# Altium schematic symbol library mfmc_components.SchLib: 184 symbols (part 2 of 2)
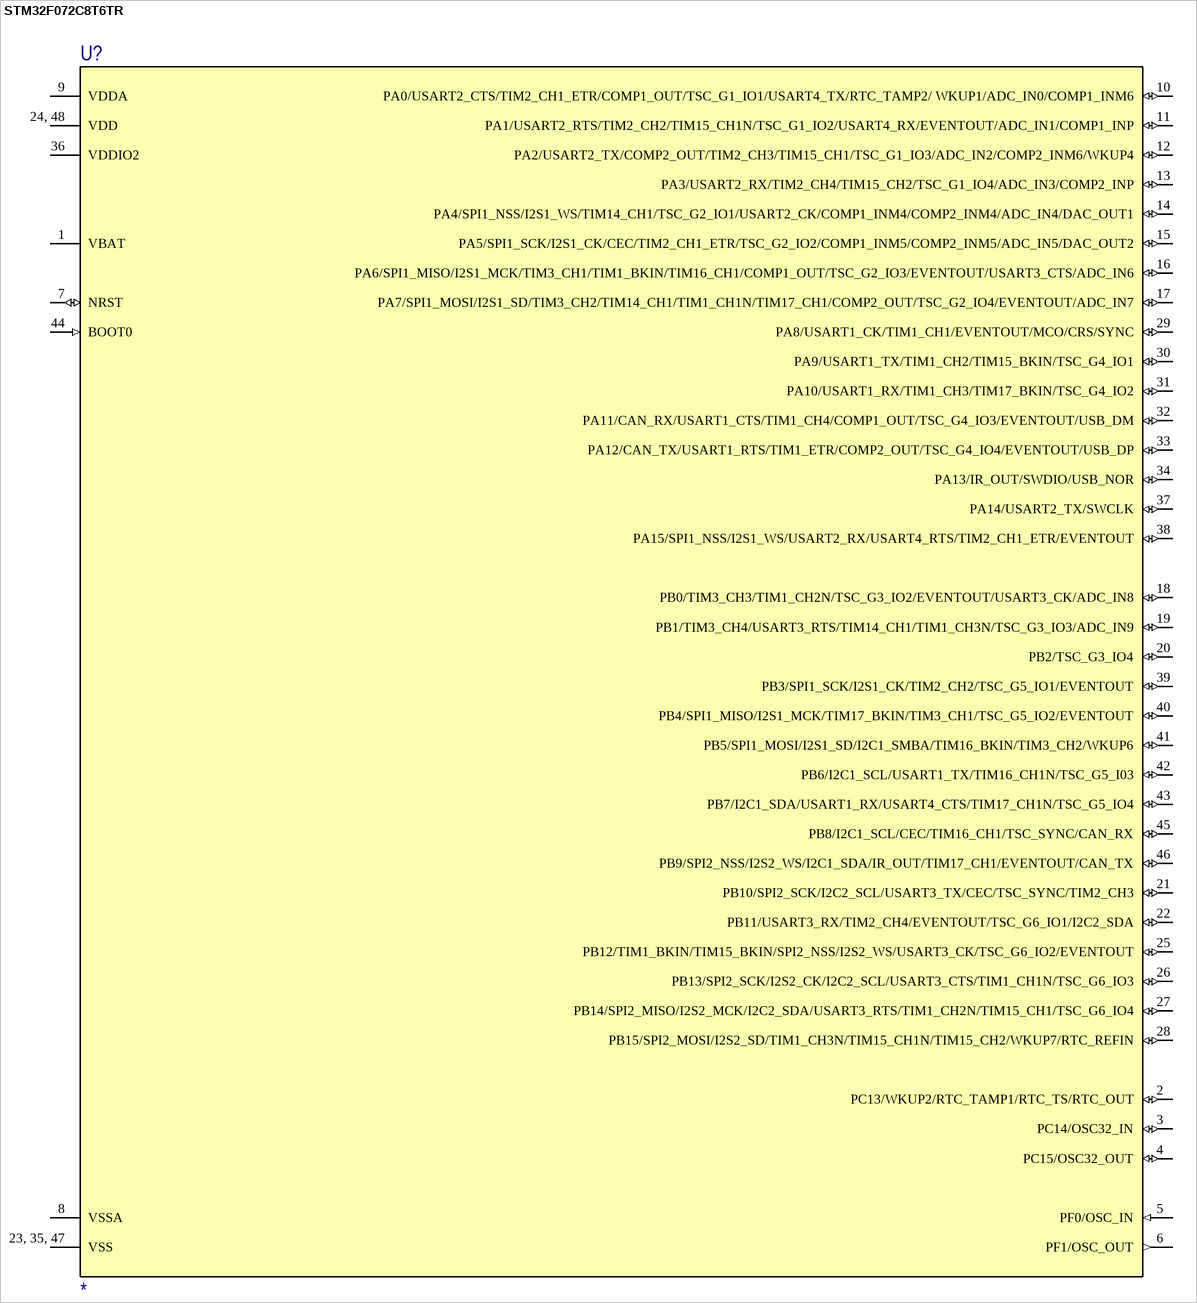
[diagram p11: symbol STM32F072C8T6TR]

## STM32F072C8T6TR
designator U?
Arm®-based 32-bit MCU, up to 128 KB Flash, crystal-less USB / FS 2.0, CAN, 12 timers, ADC, DAC & comm. interfaces, 2.0 - 3.6 V
footprint 48-LQFP (TSQFP, 48-Leads, Body 7,00x7,00mm, Pitch 0,50mm, IPC Medium Density); pin to pad 23, 35, 47>23+35+47 24, 48>24+48
pins: 1 VBAT (power), 2 PC13/WKUP2/RTC_TAMP1/RTC_TS/RTC_OUT (io), 3 PC14/OSC32_IN (io), 4 PC15/OSC32_OUT (io), 5 PF0/OSC_IN (in), 6 PF1/OSC_OUT (out), 7 NRST (io), 8 VSSA (power), 9 VDDA (power), 10 PA0/USART2_CTS/TIM2_CH1_ETR/COMP1_OUT/TSC_G1_IO1/USART4_TX/RTC_TAMP2/ WKUP1/ADC_IN0/COMP1_INM6 (io), 11 PA1/USART2_RTS/TIM2_CH2/TIM15_CH1N/TSC_G1_IO2/USART4_RX/EVENTOUT/ADC_IN1/COMP1_INP (io), 12 PA2/USART2_TX/COMP2_OUT/TIM2_CH3/TIM15_CH1/TSC_G1_IO3/ADC_IN2/COMP2_INM6/WKUP4 (io), 13 PA3/USART2_RX/TIM2_CH4/TIM15_CH2/TSC_G1_IO4/ADC_IN3/COMP2_INP (io), 14 PA4/SPI1_NSS/I2S1_WS/TIM14_CH1/TSC_G2_IO1/USART2_CK/COMP1_INM4/COMP2_INM4/ADC_IN4/DAC_OUT1 (io), 15 PA5/SPI1_SCK/I2S1_CK/CEC/TIM2_CH1_ETR/TSC_G2_IO2/COMP1_INM5/COMP2_INM5/ADC_IN5/DAC_OUT2 (io), 16 PA6/SPI1_MISO/I2S1_MCK/TIM3_CH1/TIM1_BKIN/TIM16_CH1/COMP1_OUT/TSC_G2_IO3/EVENTOUT/USART3_CTS/ADC_IN6 (io), 17 PA7/SPI1_MOSI/I2S1_SD/TIM3_CH2/TIM14_CH1/TIM1_CH1N/TIM17_CH1/COMP2_OUT/TSC_G2_IO4/EVENTOUT/ADC_IN7 (io), 18 PB0/TIM3_CH3/TIM1_CH2N/TSC_G3_IO2/EVENTOUT/USART3_CK/ADC_IN8 (io), 19 PB1/TIM3_CH4/USART3_RTS/TIM14_CH1/TIM1_CH3N/TSC_G3_IO3/ADC_IN9 (io), 20 PB2/TSC_G3_IO4 (io), 21 PB10/SPI2_SCK/I2C2_SCL/USART3_TX/CEC/TSC_SYNC/TIM2_CH3 (io), 22 PB11/USART3_RX/TIM2_CH4/EVENTOUT/TSC_G6_IO1/I2C2_SDA (io), 23, 35, 47 VSS (power), 24, 48 VDD (power), 25 PB12/TIM1_BKIN/TIM15_BKIN/SPI2_NSS/I2S2_WS/USART3_CK/TSC_G6_IO2/EVENTOUT (io), 26 PB13/SPI2_SCK/I2S2_CK/I2C2_SCL/USART3_CTS/TIM1_CH1N/TSC_G6_IO3 (io), 27 PB14/SPI2_MISO/I2S2_MCK/I2C2_SDA/USART3_RTS/TIM1_CH2N/TIM15_CH1/TSC_G6_IO4 (io), 28 PB15/SPI2_MOSI/I2S2_SD/TIM1_CH3N/TIM15_CH1N/TIM15_CH2/WKUP7/RTC_REFIN (io), 29 PA8/USART1_CK/TIM1_CH1/EVENTOUT/MCO/CRS/SYNC (io), 30 PA9/USART1_TX/TIM1_CH2/TIM15_BKIN/TSC_G4_IO1 (io), 31 PA10/USART1_RX/TIM1_CH3/TIM17_BKIN/TSC_G4_IO2 (io), 32 PA11/CAN_RX/USART1_CTS/TIM1_CH4/COMP1_OUT/TSC_G4_IO3/EVENTOUT/USB_DM (io), 33 PA12/CAN_TX/USART1_RTS/TIM1_ETR/COMP2_OUT/TSC_G4_IO4/EVENTOUT/USB_DP (io), 34 PA13/IR_OUT/SWDIO/USB_NOR (io), 36 VDDIO2 (power), 37 PA14/USART2_TX/SWCLK (io), 38 PA15/SPI1_NSS/I2S1_WS/USART2_RX/USART4_RTS/TIM2_CH1_ETR/EVENTOUT (io), 39 PB3/SPI1_SCK/I2S1_CK/TIM2_CH2/TSC_G5_IO1/EVENTOUT (io), 40 PB4/SPI1_MISO/I2S1_MCK/TIM17_BKIN/TIM3_CH1/TSC_G5_IO2/EVENTOUT (io), 41 PB5/SPI1_MOSI/I2S1_SD/I2C1_SMBA/TIM16_BKIN/TIM3_CH2/WKUP6 (io), 42 PB6/I2C1_SCL/USART1_TX/TIM16_CH1N/TSC_G5_I03 (io), 43 PB7/I2C1_SDA/USART1_RX/USART4_CTS/TIM17_CH1N/TSC_G5_IO4 (io), 44 BOOT0 (in), 45 PB8/I2C1_SCL/CEC/TIM16_CH1/TSC_SYNC/CAN_RX (io), 46 PB9/SPI2_NSS/I2S2_WS/I2C1_SDA/IR_OUT/TIM17_CH1/EVENTOUT/CAN_TX (io)

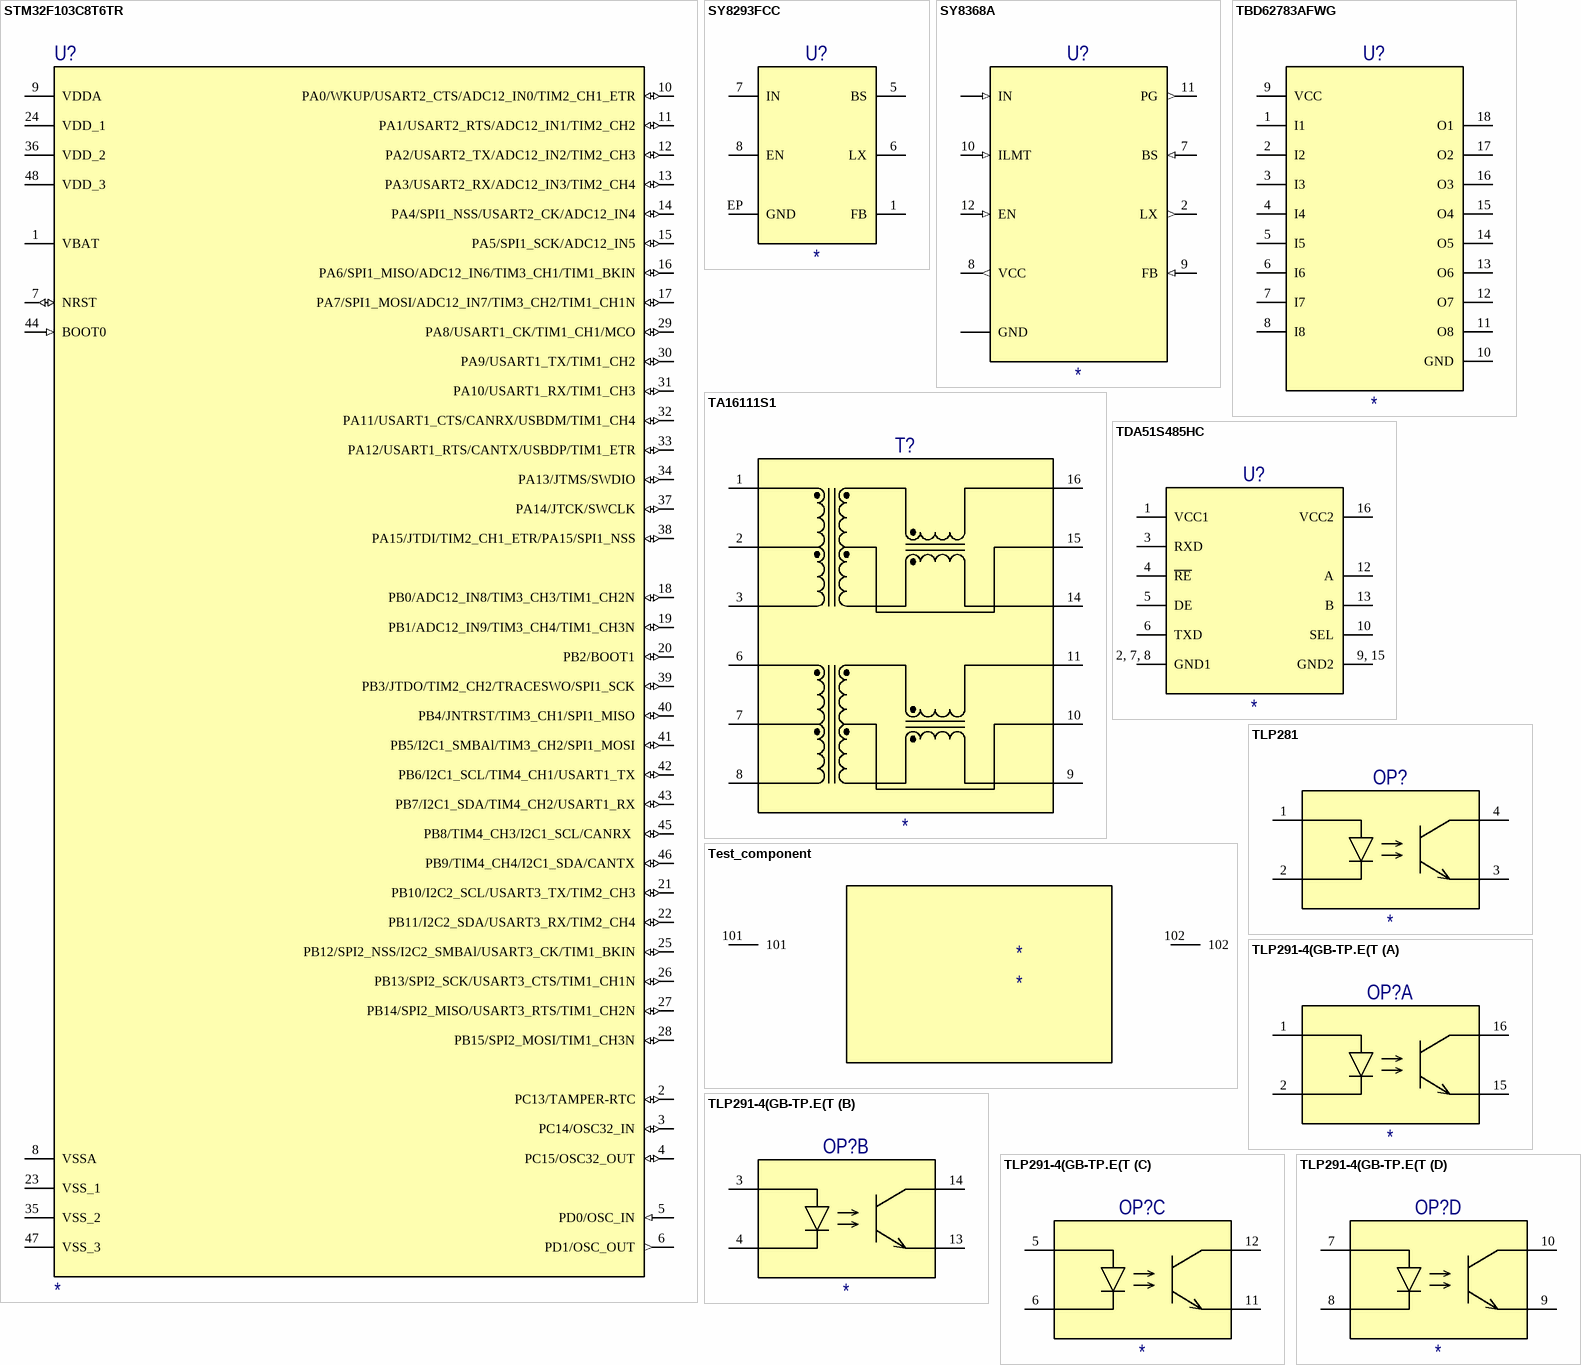
[diagram p9: symbols STM32F103C8T6TR to TLP291-4(GB-TP.E(T]

## STM32F103C8T6TR
designator U?
Medium-density performance line Arm®-based 32-bit MCU with 64 or 128 KB Flash, USB, CAN, 7 timers, 2 ADCs, 9 com. interfaces
footprint 48-LQFP (TSQFP, 48-Leads, Body 7,00x7,00mm, Pitch 0,50mm, IPC Medium Density)
pins: 1 VBAT (power), 2 PC13/TAMPER-RTC (io), 3 PC14/OSC32_IN (io), 4 PC15/OSC32_OUT (io), 5 PD0/OSC_IN (in), 6 PD1/OSC_OUT (out), 7 NRST (io), 8 VSSA (power), 9 VDDA (power), 10 PA0/WKUP/USART2_CTS/ADC12_IN0/TIM2_CH1_ETR (io), 11 PA1/USART2_RTS/ADC12_IN1/TIM2_CH2 (io), 12 PA2/USART2_TX/ADC12_IN2/TIM2_CH3 (io), 13 PA3/USART2_RX/ADC12_IN3/TIM2_CH4 (io), 14 PA4/SPI1_NSS/USART2_CK/ADC12_IN4 (io), 15 PA5/SPI1_SCK/ADC12_IN5 (io), 16 PA6/SPI1_MISO/ADC12_IN6/TIM3_CH1/TIM1_BKIN (io), 17 PA7/SPI1_MOSI/ADC12_IN7/TIM3_CH2/TIM1_CH1N (io), 18 PB0/ADC12_IN8/TIM3_CH3/TIM1_CH2N (io), 19 PB1/ADC12_IN9/TIM3_CH4/TIM1_CH3N (io), 20 PB2/BOOT1 (io), 21 PB10/I2C2_SCL/USART3_TX/TIM2_CH3 (io), 22 PB11/I2C2_SDA/USART3_RX/TIM2_CH4 (io), 23 VSS_1 (power), 24 VDD_1 (power), 25 PB12/SPI2_NSS/I2C2_SMBAl/USART3_CK/TIM1_BKIN (io), 26 PB13/SPI2_SCK/USART3_CTS/TIM1_CH1N (io), 27 PB14/SPI2_MISO/USART3_RTS/TIM1_CH2N (io), 28 PB15/SPI2_MOSI/TIM1_CH3N (io), 29 PA8/USART1_CK/TIM1_CH1/MCO (io), 30 PA9/USART1_TX/TIM1_CH2 (io), 31 PA10/USART1_RX/TIM1_CH3 (io), 32 PA11/USART1_CTS/CANRX/USBDM/TIM1_CH4 (io), 33 PA12/USART1_RTS/CANTX/USBDP/TIM1_ETR (io), 34 PA13/JTMS/SWDIO (io), 35 VSS_2 (power), 36 VDD_2 (power), 37 PA14/JTCK/SWCLK (io), 38 PA15/JTDI/TIM2_CH1_ETR/PA15/SPI1_NSS (io), 39 PB3/JTDO/TIM2_CH2/TRACESWO/SPI1_SCK (io), 40 PB4/JNTRST/TIM3_CH1/SPI1_MISO (io), 41 PB5/I2C1_SMBAl/TIM3_CH2/SPI1_MOSI (io), 42 PB6/I2C1_SCL/TIM4_CH1/USART1_TX (io), 43 PB7/I2C1_SDA/TIM4_CH2/USART1_RX (io), 44 BOOT0 (in), 45 PB8/TIM4_CH3/I2C1_SCL/CANRX  (io), 46 PB9/TIM4_CH4/I2C1_SDA/CANTX (io), 47 VSS_3 (power), 48 VDD_3 (power)

## SY8293FCC
designator U?
High Efficiency, 800kHz, 40V Input, 3A Non-synchronous Step Down Regulator; Manufacturer: SILERGY
footprint 8-SOIC-E-OVERLAY (SOIC, 8-Leads, Exposed Pad, Body 4,91x3,90mm, Pitch 1,27mm, IPC Medium Density)
footprint 8-SOIC-E (SOIC, 8-Leads, Exposed Pad, Body 4,91x3,90mm, Pitch 1,27mm, IPC Medium Density)
pins: 1 FB "Output feedback pin", 5 BS "Boot-strap pin", 6 LX "Inductor pin", 7 IN "Input pin", 8 EN "Enable control", EP GND "Ground pin"

## SY8368A
designator U?
The SY8368A develops a high efficiency synchronousm step-down DC-DC regulator capable of delivering 8A continuous, 16A peak current. The SY8368A operates over a wide input voltage range from 4.0V to 28V and integrates main switch and synchronous switch with very low RDS(ON) to minimize the conduction loss.
footprint QFN3x3-12-B; pin to pad 1>1+3 4>4+5+6
pins: 1 GND (power), 2 LX (out), 4 IN (in), 7 BS (in), 8 VCC (out), 9 FB (in), 10 ILMT (in), 11 PG (out), 12 EN (in)

## TA16111S1
designator T?
Power over ethernet PoE magnetics 10/100Base-Tx VoIP Magnetics Modules
footprint 16-SOP-H5.8 (SOP, 16-Leads, Body 12,70x7,00mm, Pitch 1,27mm, IPC Medium Density)
pins: 1 TDP, 2 TDC, 3 TDN, 6 RDP, 7 RDC, 8 RDN, 9 RXN, 10 RXC, 11 RXP, 14 TXN, 15 TXC, 16 TXP

## TBD62783AFWG
designator U?
DMOS transistor array with 8 circuits; Manufacturer: TOSHIBA CORPORATION
footprint 18-SOIC-E7500-D11600-A2650-H10300-B700-e1270 (SOIC, 18-Leads, Body 11,60x7,50mm, Pitch 1,27mm, IPC Medium Density)
footprint 18-SOIC-E7500-D11600-A2650-H10300-B700-e1270 - OVERLAY (SOIC, 18-Leads, Body 11,60x7,50mm, Pitch 1,27mm, IPC Medium Density)
pins: 1 I1, 2 I2, 3 I3, 4 I4, 5 I5, 6 I6, 7 I7, 8 I8, 9 VCC, 10 GND, 11 O8, 12 O7, 13 O6, 14 O5, 15 O4, 16 O3, 17 O2, 18 O1

## TDA51S485HC
designator U?
Isolated bidirect RS485 UART Convertor; Manufacturer: MORNSUN Guangzhou Science & Technology Co., Ltd.
footprint 16-SOIC-E7500-D10300-A2560-H10300-B400-e1270 (SOIC, 16-Leads, Body 10,30x7,50mm, Pitch 1,27mm, IPC Medium Density); pin to pad 2,7,8>2+7+8 9,15>9+15
footprint 16-SOIC-E7500-D10300-A2560-H10300-B400-e1270 - OVERLAY (SOIC, 16-Leads, Body 10,30x7,50mm, Pitch 1,27mm, IPC Medium Density)
pins: 1 VCC1, 2, 7, 8 GND1, 3 RXD, 4 ~{RE}, 5 DE, 6 TXD, 9, 15 GND2, 10 SEL, 12 A, 13 B, 16 VCC2

## Test_component
designator *
Manufacturer 1: Samsung; Manufacturer Part Number 1: 123; Manufacturer Lifecycle 1: Volume Production; Supplier 1: Didikey
pins: 101, 102

## TLP281
designator OP?
TLP281 and TLP281-4 is a very small and thin coupler, suitable for surface mount assembly in applications such as PCMCIA Fax modem, programmable controllers. TLP281 and TLP281-4 consist of photo transistor, optically coupled to a gallium arsenide infrared emitting diode.; Manufacturer: TOSHIBA ELECTRONIC DEVICES & STORAGE CORPORATION
footprint 4-SOIC (SOIC, 4-Leads, Body 2,60x4,40mm, Pitch 1,27mm, IPC Medium Density)
pins: 1, 2, 3, 4

## TLP291-4(GB-TP.E(T
designator OP?
Phototransistors optically coupled to an infrared LED; Manufacturer: TOSHIBA ELECTRONIC DEVICES & STORAGE CORPORATION
footprint 16-SOIC-E4000-D10000-A1750-H6000-B600-e1270
footprint 16-SOIC-E4000-D10000-A1750-H6000-B600-e1270 - OVERLAY
part A pins: 1, 2, 15, 16
part B pins: 3, 4, 13, 14
part C pins: 5, 6, 11, 12
part D pins: 7, 8, 9, 10

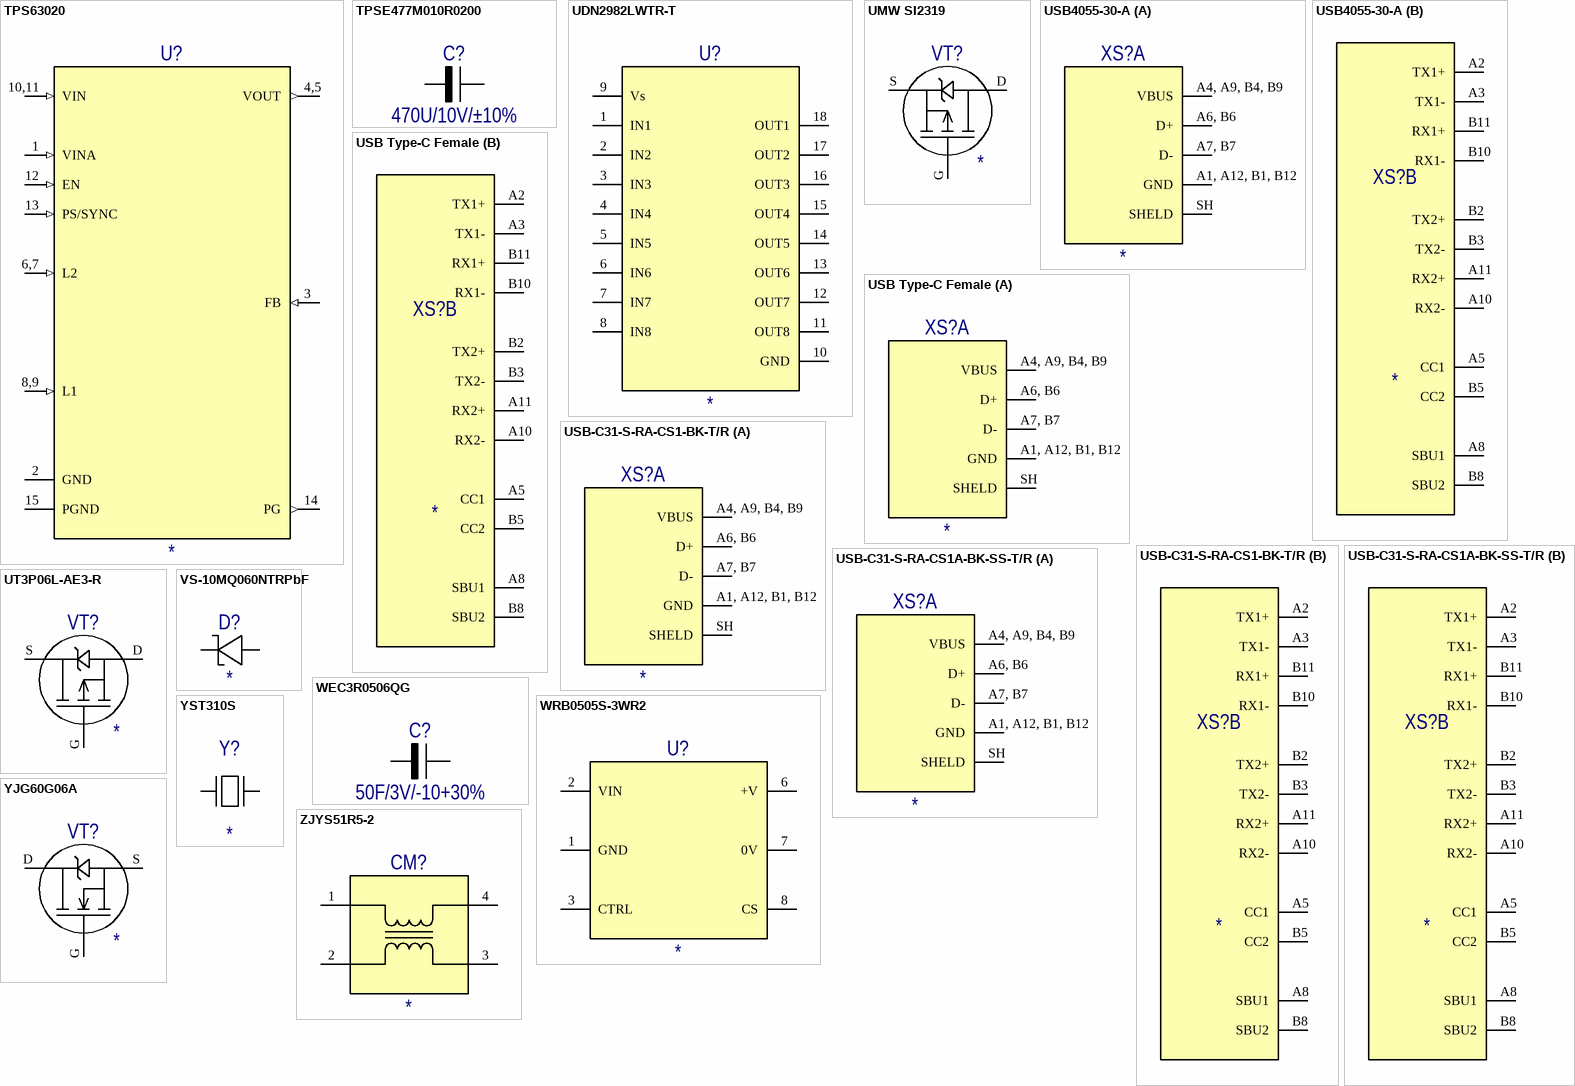
[diagram p10: symbols TPS63020 to ZJYS51R5-2]

## TPS63020
designator U?
The TPS6302x devices provide a power supply solution for products powered by either a two-cell or three-cell alkaline, NiCd or NiMH battery, a one-cell Li-ion or Li-polymer battery, supercapacitors or other supply rails. Output currents up to 3 A are supported. When using batteries, they can be discharged down to below 2 V. The buck-boost converter is based on a fixed frequency, pulse width modulation (PWM) controller using synchronous rectification to obtain maximum efficiency. At low load currents, the converter enters power save mode to maintain high efficiency over a wide load current range. The power save mode can be disabled, forcing the converter to operate at a fixed switching frequency. The maximum average current in the switches is limited to a typical value of 4 A. The output voltage is programmable using an external resistor divider, or is fixed internally on the chip. The converter can be disabled to minimize battery drain. During shutdown, the load is disconnected from the battery.
footprint 14-VSONT (14-Pin VSON with Exposed Thermal Pad); pin to pad 4,5>4+5 6,7>6+7 8,9>8+9 10,11>10+11
pins: 1 VINA (in), 2 GND, 3 FB (in), 4,5 VOUT (out), 6,7 L2 (in), 8,9 L1 (in), 10,11 VIN (in), 12 EN (in), 13 PS/SYNC (in), 14 PG (out), 15 PGND

## TPSE477M010R0200
designator C?  value 470U/10V/±10%  (hidden comment: *)
Low ESR series of robust Mn02 solid electrolyte capacitors, Capacitance: 470uF, Nominal voltage: 10V, Tolerance: ±10%, ESR: 200mΩ; MountingValue: 470uF
footprint TCAP2917(E) (Molded Capacitor, 2-Leads, Body 7,30x4,30mm, IPC Medium Density)
pins: 1, 2

## UDN2982LWTR-T
designator U?
Manufacturer: Allegro MicroSystems, Inc
footprint 18-SOIC-E7500-D11600-A2650-H10300-B700-e1270 (SOIC, 18-Leads, Body 11,60x7,50mm, Pitch 1,27mm, IPC Medium Density)
pins: 1 IN1, 2 IN2, 3 IN3, 4 IN4, 5 IN5, 6 IN6, 7 IN7, 8 IN8, 9 Vs, 10 GND, 11 OUT8, 12 OUT7, 13 OUT6, 14 OUT5, 15 OUT4, 16 OUT3, 17 OUT2, 18 OUT1

## UMW SI2319
designator VT?
P-channel Power MOSFET; Manufacturer: Guangdong Youtai Semiconductor Co., Ltd
footprint 3-SOT23 (SOT23, 3-Leads, Body 2,90x2,37mm, Pitch 0,95mm, IPC Medium Density); pin to pad D>3 G>1 S>2
pins: D, G, S

## USB4055-30-A
designator XS?
USB Type-C Connector
footprint GCT-USB4055-2016-04-21 (Universal serial bus, Type-C, Female, Right angle, Black insulator, Tape & Reel); pin to pad A1, A12, B1, B12>A1+A12+B1+B12 A4, A9, B4, B9>A4+A9+B4+B9 A6, B6>A6+B6 A7, B7>A7+B7
part A pins: A1, A12, B1, B12 GND, A4, A9, B4, B9 VBUS, A6, B6 D+, A7, B7 D-, SH SHELD
part B pins: A2 TX1+, A3 TX1-, A5 CC1, A8 SBU1, A10 RX2-, A11 RX2+, B2 TX2+, B3 TX2-, B5 CC2, B8 SBU2, B10 RX1-, B11 RX1+

## USB Type-C Female
designator XS?
footprint USB-C31-S-RA-CS1A-BK-SS-T/R; pin to pad A1, A12, B1, B12>A1+A12+B1+B12 A4, A9, B4, B9>A4+A9+B4+B9 A6, B6>A6+B6 A7, B7>A7+B7
part A pins: A1, A12, B1, B12 GND, A4, A9, B4, B9 VBUS, A6, B6 D+, A7, B7 D-, SH SHELD
part B pins: A2 TX1+, A3 TX1-, A5 CC1, A8 SBU1, A10 RX2-, A11 RX2+, B2 TX2+, B3 TX2-, B5 CC2, B8 SBU2, B10 RX1-, B11 RX1+

## USB-C31-S-RA-CS1-BK-T/R
designator XS?
USB Type-C Connector
footprint USB-C31-S-RA-CS1-BK-T/R (Universal serial bus, Type-C, Female, Right angle, Black insulator, Tape & Reel); pin to pad A1, A12, B1, B12>A1+A12+B1+B12 A4, A9, B4, B9>A4+A9+B4+B9 A6, B6>A6+B6 A7, B7>A7+B7
part A pins: A1, A12, B1, B12 GND, A4, A9, B4, B9 VBUS, A6, B6 D+, A7, B7 D-, SH SHELD
part B pins: A2 TX1+, A3 TX1-, A5 CC1, A8 SBU1, A10 RX2-, A11 RX2+, B2 TX2+, B3 TX2-, B5 CC2, B8 SBU2, B10 RX1-, B11 RX1+

## USB-C31-S-RA-CS1A-BK-SS-T/R
designator XS?
USB Type-C Connector
footprint USB-C31-S-RA-CS1A-BK-SS-T/R; pin to pad 1>A4+A9+B4+B9 2>A7+B7 3>A6+B6 4>A1+A12+B1+B12 A1, A12, B1, B12>A1+A12+B1+B12 A4, A9, B4, B9>A4+A9+B4+B9 A6, B6>A6+B6 A7, B7>A7+B7
part A pins: A1, A12, B1, B12 GND, A4, A9, B4, B9 VBUS, A6, B6 D+, A7, B7 D-, SH SHELD
part B pins: A2 TX1+, A3 TX1-, A5 CC1, A8 SBU1, A10 RX2-, A11 RX2+, B2 TX2+, B3 TX2-, B5 CC2, B8 SBU2, B10 RX1-, B11 RX1+

## UT3P06L-AE3-R
designator VT?
UTC P-CHANNEL POWER MOSFET
footprint 3-SOT23 (SOT23, 3-Leads, Body 2,90x2,37mm, Pitch 0,95mm, IPC Medium Density); pin to pad D>3 G>1 S>2
pins: D, G, S

## VS-10MQ060NTRPbF
designator D?
The VS-10MQ060NTRPbF surface mount Schottky rectifier has been designed for applications requiring low forward drop and very small foot prints on PC boards. Typical applications are in disk drives, switching power supplies, converters, freewheeling diodes, battery charging, and reverse battery protection.
footprint DIOM4528X23N (Molded Diode, 2-Leads, Body 4,50x2,80mm, IPC Medium Density)
pins: 1, 2

## WEC3R0506QG
designator C?  value 50F/3V/-10+30%  (hidden comment: *)
Super Capacitor, Capacitance: 50F, Voltage: 3V; MF: VINATECK; MountingValue: 50F
footprint ECAP1840(L)
footprint ECAP1840(S)
footprint ECAP1840(L)H6
pins: 1, 2

## WRB0505S-3WR2
designator U?
footprint MORNSUN-WRx_S-3WR2 (DC/DC Converter WRA_S-3WR2 & WRB_S-3WR2 Series)
pins: 1 GND, 2 VIN, 3 CTRL, 6 +V, 7 0V, 8 CS

## YJG60G06A
designator VT?
N-Channel Enhancement Mode Field Effect Transistor; Manufacturer: Yangzhou Yangjie Electronic Technology Co., Ltd.
footprint 8-PDFN-E6000-D5200-A1100-H6200-B400-e1270 (PDFN5060-8L-B-1.1MM); pin to pad D>1+2+3 G>4 S>5+6+7+8
pins: D, G, S

## YST310S
designator Y?
16 MHz Â±20ppm Crystal 18pF 50 Ohms 4-SMD, No Lead
footprint YXC32XX
pins: 1, 2

## ZJYS51R5-2
designator CM?
footprint 4-SOP-E5500-D6860-A5080-H9000-B1300-e2540
pins: 1, 2, 3, 4